# Altium schematic symbol library ESR03EZPF1001.SchLib: 1 symbol
Pins are listed as number, name and electrical type; pins without a type are passive.

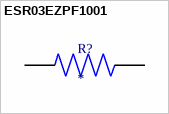
[diagram p0: symbol ESR03EZPF1001]

## ESR03EZPF1001
designator R?
Res 0603 1K Ohm 1% 1/4W Â±100ppm/Â°C Molded SMD Paper T/R; MF: {'manufacturer': u'Rohm'}; MP: ESR03EZPF1001; Value: *; Price: None; Availability: Unavailable; Package: None
footprint RESC1608X55N
pins: 1, 2